# EAGLE library part TMS470R1B1M (library TMS470)
TMS470R1x 16/32-Bit RISC Core (ARM7TDMI®) 1 Mbytes FLASH 64 kbytes SRAM 12 Channels Timer 12 Channels 10-bit A/D 2x SPI, 3x SCI, 5x I2C 2 HECC CAN Module 93 IO Pins Max 60 MHz
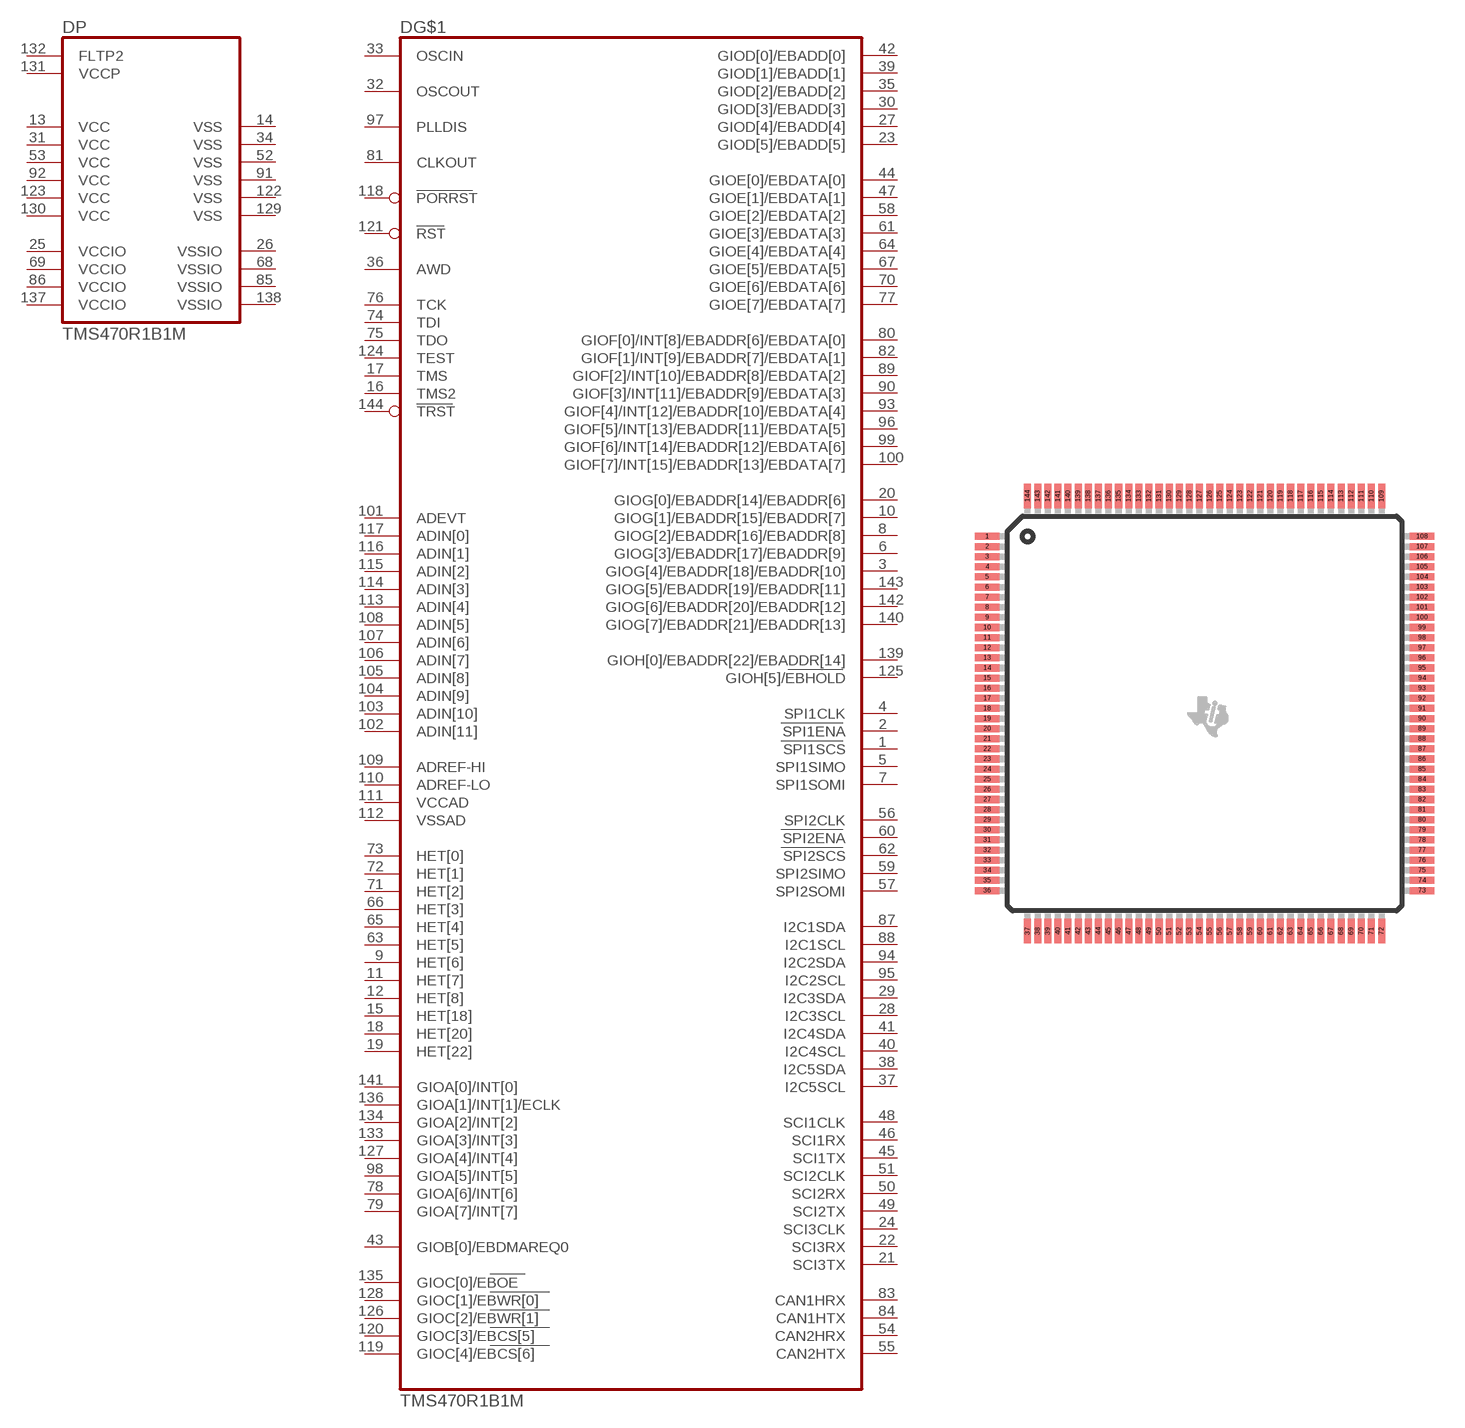
[diagram p0: symbol with the pads of PQFP144; footprint PQFP144]

Designator prefix D; gates P=SUPPLY-1M G$1=TMS470R1B1M

## TMS470R1B1MPGEA  [PQFP144]
1  G$1:SPI1SCS
2  G$1:SPI1ENA
3  G$1:GIOG[4]/EBADDR[18]/EBADDR[10]
4  G$1:SPI1CLK
5  G$1:SPI1SIMO
6  G$1:GIOG[3]/EBADDR[17]/EBADDR[9]
7  G$1:SPI1SOMI
8  G$1:GIOG[2]/EBADDR[16]/EBADDR[8]
9  G$1:HET[6]
10  G$1:GIOG[1]/EBADDR[15]/EBADDR[7]
11  G$1:HET[7]
12  G$1:HET[8]
13  P:VCC  pwr
14  P:VSS  pwr
15  G$1:HET[18]
16  G$1:TMS2  in
17  G$1:TMS  in
18  G$1:HET[20]
19  G$1:HET[22]
20  G$1:GIOG[0]/EBADDR[14]/EBADDR[6]
21  G$1:SCI3TX
22  G$1:SCI3RX
23  G$1:GIOD[5]/EBADD[5]
24  G$1:SCI3CLK
25  P:VCCIO  pwr
26  P:VSSIO  pwr
27  G$1:GIOD[4]/EBADD[4]
28  G$1:I2C3SCL
29  G$1:I2C3SDA
30  G$1:GIOD[3]/EBADD[3]
31  P:VCC  pwr
32  G$1:OSCOUT  out
33  G$1:OSCIN  in
34  P:VSS  pwr
35  G$1:GIOD[2]/EBADD[2]
36  G$1:AWD  in
37  G$1:I2C5SCL
38  G$1:I2C5SDA
39  G$1:GIOD[1]/EBADD[1]
40  G$1:I2C4SCL
41  G$1:I2C4SDA
42  G$1:GIOD[0]/EBADD[0]
43  G$1:GIOB[0]/EBDMAREQ0
44  G$1:GIOE[0]/EBDATA[0]
45  G$1:SCI1TX
46  G$1:SCI1RX
47  G$1:GIOE[1]/EBDATA[1]
48  G$1:SCI1CLK
49  G$1:SCI2TX
50  G$1:SCI2RX
51  G$1:SCI2CLK
52  P:VSS  pwr
53  P:VCC  pwr
54  G$1:CAN2HRX
55  G$1:CAN2HTX
56  G$1:SPI2CLK
57  G$1:SPI2SOMI
58  G$1:GIOE[2]/EBDATA[2]
59  G$1:SPI2SIMO
60  G$1:SPI2ENA
61  G$1:GIOE[3]/EBDATA[3]
62  G$1:SPI2SCS
63  G$1:HET[5]
64  G$1:GIOE[4]/EBDATA[4]
65  G$1:HET[4]
66  G$1:HET[3]
67  G$1:GIOE[5]/EBDATA[5]
68  P:VSSIO  pwr
69  P:VCCIO  pwr
70  G$1:GIOE[6]/EBDATA[6]
71  G$1:HET[2]
72  G$1:HET[1]
73  G$1:HET[0]
74  G$1:TDI  in
75  G$1:TDO  out
76  G$1:TCK  in
77  G$1:GIOE[7]/EBDATA[7]
78  G$1:GIOA[6]/INT[6]
79  G$1:GIOA[7]/INT[7]
80  G$1:GIOF[0]/INT[8]/EBADDR[6]/EBDATA[0]
81  G$1:CLKOUT
82  G$1:GIOF[1]/INT[9]/EBADDR[7]/EBDATA[1]
83  G$1:CAN1HRX
84  G$1:CAN1HTX
85  P:VSSIO  pwr
86  P:VCCIO  pwr
87  G$1:I2C1SDA
88  G$1:I2C1SCL
89  G$1:GIOF[2]/INT[10]/EBADDR[8]/EBDATA[2]
90  G$1:GIOF[3]/INT[11]/EBADDR[9]/EBDATA[3]
91  P:VSS  pwr
92  P:VCC  pwr
93  G$1:GIOF[4]/INT[12]/EBADDR[10]/EBDATA[4]
94  G$1:I2C2SDA
95  G$1:I2C2SCL
96  G$1:GIOF[5]/INT[13]/EBADDR[11]/EBDATA[5]
97  G$1:PLLDIS  in
98  G$1:GIOA[5]/INT[5]
99  G$1:GIOF[6]/INT[14]/EBADDR[12]/EBDATA[6]
100  G$1:GIOF[7]/INT[15]/EBADDR[13]/EBDATA[7]
101  G$1:ADEVT
102  G$1:ADIN[11]  in
103  G$1:ADIN[10]  in
104  G$1:ADIN[9]  in
105  G$1:ADIN[8]  in
106  G$1:ADIN[7]  in
107  G$1:ADIN[6]  in
108  G$1:ADIN[5]  in
109  G$1:ADREF-HI  in
110  G$1:ADREF-LO  in
111  G$1:VCCAD  pwr
112  G$1:VSSAD  pwr
113  G$1:ADIN[4]  in
114  G$1:ADIN[3]  in
115  G$1:ADIN[2]  in
116  G$1:ADIN[1]  in
117  G$1:ADIN[0]  in
118  G$1:PORRST  in
119  G$1:GIOC[4]/EBCS[6]
120  G$1:GIOC[3]/EBCS[5]
121  G$1:RST
122  P:VSS  pwr
123  P:VCC  pwr
124  G$1:TEST  in
125  G$1:GIOH[5]/EBHOLD
126  G$1:GIOC[2]/EBWR[1]
127  G$1:GIOA[4]/INT[4]
128  G$1:GIOC[1]/EBWR[0]
129  P:VSS  pwr
130  P:VCC  pwr
131  P:VCCP  pwr
132  P:FLTP2  pas
133  G$1:GIOA[3]/INT[3]
134  G$1:GIOA[2]/INT[2]
135  G$1:GIOC[0]/EBOE
136  G$1:GIOA[1]/INT[1]/ECLK
137  P:VCCIO  pwr
138  P:VSSIO  pwr
139  G$1:GIOH[0]/EBADDR[22]/EBADDR[14]
140  G$1:GIOG[7]/EBADDR[21]/EBADDR[13]
141  G$1:GIOA[0]/INT[0]
142  G$1:GIOG[6]/EBADDR[20]/EBADDR[12]
143  G$1:GIOG[5]/EBADDR[19]/EBADDR[11]
144  G$1:TRST  in

## Footprint PQFP144 (pad centres in mm)
Platic Quad Flat Package PGE (S-PQFP-G144)
smd 1.2 x 0.35: 1 -10.75,8.75; 2 -10.75,8.25; 3 -10.75,7.75; 4 -10.75,7.25; 5 -10.75,6.75; 6 -10.75,6.25; 7 -10.75,5.75; 8 -10.75,5.25; 9 -10.75,4.75; 10 -10.75,4.25; 11 -10.75,3.75; 12 -10.75,3.25; 13 -10.75,2.75; 14 -10.75,2.25; 15 -10.75,1.75; 16 -10.75,1.25; 17 -10.75,0.75; 18 -10.75,0.25; 19 -10.75,-0.25; 20 -10.75,-0.75; 21 -10.75,-1.25; 22 -10.75,-1.75; 23 -10.75,-2.25; 24 -10.75,-2.75; 25 -10.75,-3.25; 26 -10.75,-3.75; 27 -10.75,-4.25; 28 -10.75,-4.75; 29 -10.75,-5.25; 30 -10.75,-5.75; 31 -10.75,-6.25; 32 -10.75,-6.75; 33 -10.75,-7.25; 34 -10.75,-7.75; 35 -10.75,-8.25; 36 -10.75,-8.75; 73 10.75,-8.75; 74 10.75,-8.25; 75 10.75,-7.75; 76 10.75,-7.25; 77 10.75,-6.75; 78 10.75,-6.25; 79 10.75,-5.75; 80 10.75,-5.25; 81 10.75,-4.75; 82 10.75,-4.25; 83 10.75,-3.75; 84 10.75,-3.25; 85 10.75,-2.75; 86 10.75,-2.25; 87 10.75,-1.75; 88 10.75,-1.25; 89 10.75,-0.75; 90 10.75,-0.25; 91 10.75,0.25; 92 10.75,0.75; 93 10.75,1.25; 94 10.75,1.75; 95 10.75,2.25; 96 10.75,2.75; 97 10.75,3.25; 98 10.75,3.75; 99 10.75,4.25; 100 10.75,4.75; 101 10.75,5.25; 102 10.75,5.75; 103 10.75,6.25; 104 10.75,6.75; 105 10.75,7.25; 106 10.75,7.75; 107 10.75,8.25; 108 10.75,8.75
smd 0.35 x 1.2: 37 -8.75,-10.75; 38 -8.25,-10.75; 39 -7.75,-10.75; 40 -7.25,-10.75; 41 -6.75,-10.75; 42 -6.25,-10.75; 43 -5.75,-10.75; 44 -5.25,-10.75; 45 -4.75,-10.75; 46 -4.25,-10.75; 47 -3.75,-10.75; 48 -3.25,-10.75; 49 -2.75,-10.75; 50 -2.25,-10.75; 51 -1.75,-10.75; 52 -1.25,-10.75; 53 -0.75,-10.75; 54 -0.25,-10.75; 55 0.25,-10.75; 56 0.75,-10.75; 57 1.25,-10.75; 58 1.75,-10.75; 59 2.25,-10.75; 60 2.75,-10.75; 61 3.25,-10.75; 62 3.75,-10.75; 63 4.25,-10.75; 64 4.75,-10.75; 65 5.25,-10.75; 66 5.75,-10.75; 67 6.25,-10.75; 68 6.75,-10.75; 69 7.25,-10.75; 70 7.75,-10.75; 71 8.25,-10.75; 72 8.75,-10.75; 109 8.75,10.75; 110 8.25,10.75; 111 7.75,10.75; 112 7.25,10.75; 113 6.75,10.75; 114 6.25,10.75; 115 5.75,10.75; 116 5.25,10.75; 117 4.75,10.75; 118 4.25,10.75; 119 3.75,10.75; 120 3.25,10.75; 121 2.75,10.75; 122 2.25,10.75; 123 1.75,10.75; 124 1.25,10.75; 125 0.75,10.75; 126 0.25,10.75; 127 -0.25,10.75; 128 -0.75,10.75; 129 -1.25,10.75; 130 -1.75,10.75; 131 -2.25,10.75; 132 -2.75,10.75; 133 -3.25,10.75; 134 -3.75,10.75; 135 -4.25,10.75; 136 -4.75,10.75; 137 -5.25,10.75; 138 -5.75,10.75; 139 -6.25,10.75; 140 -6.75,10.75; 141 -7.25,10.75; 142 -7.75,10.75; 143 -8.25,10.75; 144 -8.75,10.75